# Altium schematic symbol library mechanical.SchLib: 6 symbols
Pins are listed as number, name and electrical type; pins without a type are passive.

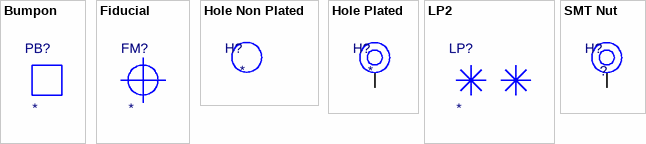
[diagram p0: symbols Bumpon to SMT Nut]

## Bumpon
designator PB?
Bumpon
footprint BUMPON 12.7x12.7mm

## Fiducial
designator FM?  (no BOM)
PWB Fiducial Mark
footprint FIDUCIAL_1MM (1mm fiducial mark)
footprint FIDUCIAL_0.8MM (0.8mm fiducial mark)

## Hole Non Plated
designator H?  (no BOM)
Hole Non Plated
footprint Hole NP 4.0x12.0x12.0 RR (4.0mm Hole Non-Plated, 12.0 Round Clearance Top and Bottom)
footprint Hole NP 3.2x5.0x5.0 RR (3.2mm Hole Non Plated, 5.0mm Round Clearance Top and Bottom)
footprint Hole NP 2.4x4.4x4.4 RR (2.4mm Hole Non Plated, 4.4mm Round Clearance Top and Bottom)
footprint Hole NP 10.0x12.0x12.0 RR (10.0mm Hole Non-Plated, 12.0 Round Clearance Top and Bottom)
footprint Hole NP 3.2x7.5x7.5 RR (3.2mm Hole Non Plated, 7.5mm Round Clearance Top and Bottom)
footprint Hole NP 3.8x9.1x9.1 RR (3.8mm Hole Non-Plated, 9.1 Round Clearance Top and Bottom)
footprint Hole NP 4.0x8.0x8.0 RR (4.0mm Hole Non-Plated, 8.0 Round Clearance Top and Bottom)
footprint Hole NP 7.8x12.0x12.0 RR (7.8mm Hole Non-Plated, 12.0 Round Clearance Top and Bottom)
footprint Hole NP 4.0x6.0x6.0 RR (4.0mm Hole Non-Plated, 6.0 Round Clearance Top and Bottom)

## Hole Plated
designator H?  (no BOM)
Hole Plated
footprint Hole 2.0x3.6x4.0 RS (Hole Plated 2mm 3.6 Round Pad on Top, 4mm Square Pad on Botton)
footprint Hole 2.0x3.8x3.8 RR (2mm Hole Plated, 3.8 Round Pad Top and Bottom)
footprint Hole 2.1x4.0x5.0 RS (Hole Plated 2.1mm 4mm Round Pad on Top, 5mm Square Pad on Botton)
footprint Hole 2.5x4.5x4.5 RR (2.5mm Hole Plated, 4.5 Round Pad Top and Bottom)
footprint Hole 3.1x7.5x7.5 RR (3.1mm Hole Plated, 7.5 Round Pad Top and Bottom)
footprint Hole 3.05x6.35x6.35 RR (3.05mm Hole Plated, 3.65 Round Pad Top and Bottom)
footprint Hole 2.0x3.4x3.4 RR (2mm Hole Plated, 3.4 Round Pad Top and Bottom)
footprint Hole 2.1x3.8x3.8 RR (2.1mm Hole Plated, 3.8 Round Pad Top and Bottom)
footprint Hole 2.0x3.2x3.2 RR (2mm Hole Plated, 3.2 Round Pad Top and Bottom)
footprint Hole 3.1x7.0x7.0 RS (3.1mm Hole Plated, 7.0 Round Pad Top, 7.0 Square Pad Bottom)
footprint Hole 2.1x3.4x3.4 RR (2.1mm Hole Plated, 3.4 Round Pad Top and Bottom)
footprint Hole 4.0x12.0x12.0 RR (4.0mm Hole Plated, 12.0 Round Pad Top and Bottom)
footprint Hole 3.2x7.5x7.5 RR (3.2mm Hole Plated, 7.5 Round Pad Top and Bottom)
pins: 0 (power)

## LP2
designator LP?
Light Pipe Dual
footprint Light Pipe RA Dual (Light Pipe - Right Angle)

## SMT Nut
designator H?, comment ?
SMT Nut; Package: SMT; MF: *; Value: *; MF-PN: *; PN: ?; ExtraInfo: SMT Nut
footprint SMT NUT 6-32 (5.5mm Hole Plated, 8.1 Pad)
footprint SMT NUT 4-40 (4.25mm Hole Plated, 6.1 Pad)
pins: 0 (power)